# Altium schematic symbol library trimmer_10k.SchLib: 1 symbol
Pins are listed as number, name and electrical type; pins without a type are passive.

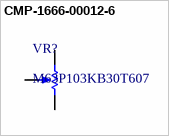
[diagram p0: symbol CMP-1666-00012-6]

## CMP-1666-00012-6
designator VR?, comment M63P103KB30T607
Single-Turn Cermet Trimmer, 10 KOhm, -55 to 125 degC, 3-Pin THD, RoHS, Bulk; Manufacturer: Vishay Semiconductor; Mounting Technology: Through Hole; DatasheetVersion: 09/2015; ComponentLink2Description: Datasheet; ComponentLink1Description: Manufacturer URL; ComponentLink1URL: http://www.vishay.com/; ComponentLink2URL: http://120.52.73.14/www.mouser.com/ds/2/427/63-239923.pdf; PackageDescription: 3-Pin Through Hole Device, Body 9.52 x 9.52 mm, Pitch 2.54 mm; PackageReference: M63P103KB30T607
footprint VISH-M63P103KB30T607 (THD, 3-Leads, Body 9.52x9.52mm, Pitch 2.54mm)
pins: 1 CCW, 2 S, 3 CW